# Altium footprint library cap-pol-size-B.PcbLib: 1 footprints
Each footprint in its own frame and in the unit in brackets; x right, y up, seen from the top. Pads: shape width x height; smd on the part's side, far side on the other; paste and mask are expansions set on the pad; w line width, h text height; cw(c..) or ccw(c..) is an arc to the next point about the centre after c.
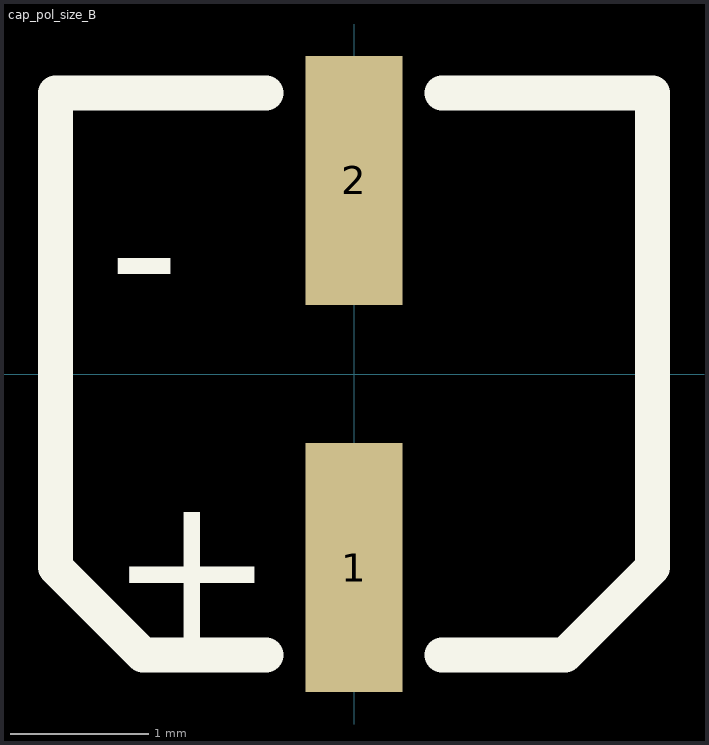
[diagram p0: the footprint, top view; thin cyan lines are the x and y axes]

## cap_pol_size_B [mm] "panasonic seris s type v size B ex. EEE1CA100AR"
pads (2):
  rect 0.7x1.8 smd: 1(0,-1.4) 2(0,1.4)
Top Overlay:
  lines w0.254: -0.635,-2.032 -1.524,-2.032 -2.159,-1.397 -2.159,2.032 -0.635,2.032 ; 0.635,-2.032 1.524,-2.032 2.159,-1.397 2.159,2.032 0.635,2.032
  text "-" at -1.778,0.381 h1.52
  text "+" at -1.778,-1.905 h1.52